# Altium footprint library SJ-3503-SMT.PcbLib: 1 footprints
Each footprint in its own frame and in the unit in brackets; x right, y up, seen from the top. Pads: shape width x height; smd on the part's side, far side on the other; paste and mask are expansions set on the pad; w line width, h text height; cw(c..) or ccw(c..) is an arc to the next point about the centre after c.
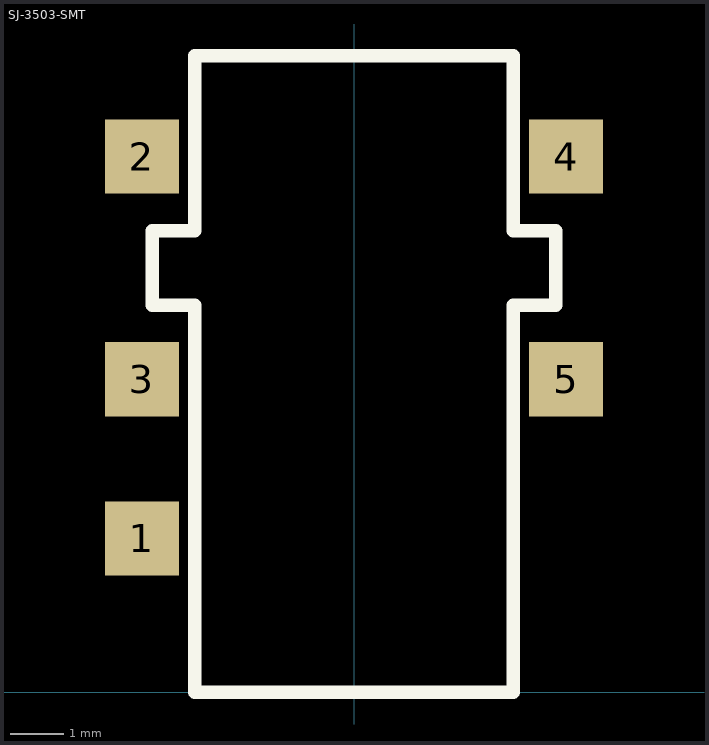
[diagram p0: the footprint, top view; thin cyan lines are the x and y axes]

## SJ-3503-SMT [mm]
pads (5):
  rect 1.4x1.4 smd: 1(-4,2.9) 2(-4,10.1) 3(-4,5.9) 4(4,10.1) 5(4,5.9)
Top Overlay:
  lines w0.254: -3.8,7.3 -3,7.3 -3,0 3,0 3,7.3 3.8,7.3 3.8,8.7 3,8.7 3,12 -1.8,12 -3,12 -3,8.7 -3.8,8.7 -3.8,7.3
3D body: height 3, standoff -2.9, extent -4.3,-2 4.3,12